# EAGLE library part 74*86* (library E3VB_ISI)
QUAD XOR
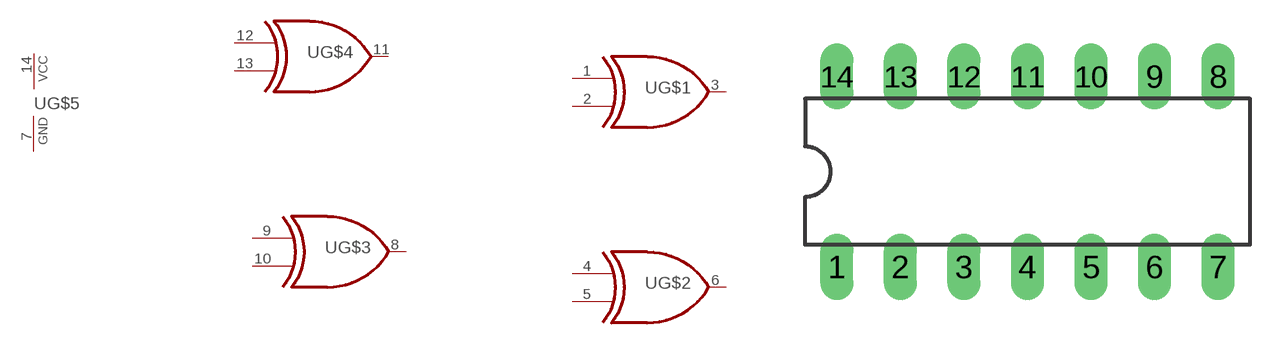
[diagram p1: symbol with the pads of 14-DIP; footprint 14-DIP]

Designator prefix U; gates G$1=74HC86AD G$2=74HC86AD G$3=74HC86AD G$4=74HC86AD G$5=PWRN

## 7486  [14-DIP]
1  G$1:I0  in
2  G$1:I1  in
3  G$1:O  out
4  G$2:I0  in
5  G$2:I1  in
6  G$2:O  out
7  G$5:GND  pwr
8  G$3:O  out
9  G$3:I0  in
10  G$3:I1  in
11  G$4:O  out
12  G$4:I0  in
13  G$4:I1  in
14  G$5:VCC  pwr

## Footprint 14-DIP (pad centres in mm)
drill 0.813 long: 1 -6.35,-3.81; 2 -3.81,-3.81; 3 -1.27,-3.81; 4 1.27,-3.81; 5 3.81,-3.81; 6 6.35,-3.81; 7 8.89,-3.81; 8 8.89,3.81; 9 6.35,3.81; 10 3.81,3.81; 11 1.27,3.81; 12 -1.27,3.81; 13 -3.81,3.81; 14 -6.35,3.81